# Altium footprint library SOP15P65_500X640X120L62X24T183X205N.PcbLib: 1 footprints
Each footprint in its own frame and in the unit in brackets; x right, y up, seen from the top. Pads: shape width x height; smd on the part's side, far side on the other; paste and mask are expansions set on the pad; w line width, h text height; cw(c..) or ccw(c..) is an arc to the next point about the centre after c.
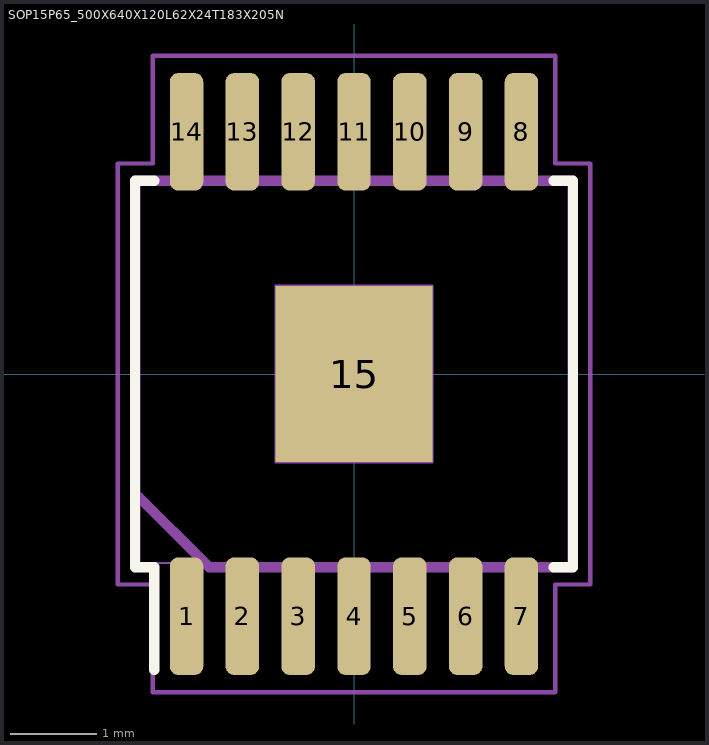
[diagram p0: the footprint, top view; thin cyan lines are the x and y axes]

## SOP15P65_500X640X120L62X24T183X205N [mm] "Small Outline Pkg (SOP with Tab), 0.65 mm pitch; 14 pin, 5.00 mm L X 4.40 mm W X 1.20 mm H body"
height 1.2
pads (15):
  rrect51% 0.39x1.37 smd: 1(-1.95,-2.82) 2(-1.3,-2.82) 3(-0.65,-2.82) 4(0,-2.82) 5(0.65,-2.82) 6(1.3,-2.82) 7(1.95,-2.82) 8(1.95,2.82) 9(1.3,2.82) 10(0.65,2.82) 11(0,2.82) 12(-0.65,2.82) 13(-1.3,2.82) 14(-1.95,2.82)
  rect 1.83x2.055 smd paste-2.055: 15(0,0)
Top Overlay:
  lines w0.12: -2.325,-3.445 -2.325,-2.25 -2.55,-2.25 -2.55,2.25 -2.325,2.25 ; 2.325,-2.25 2.55,-2.25 2.55,2.25 2.325,2.25
Top Paste:
  region: -0.15,0.15 -0.76,0.15 -0.76,0.88 -0.15,0.88
  region: -0.15,-0.88 -0.76,-0.88 -0.76,-0.15 -0.15,-0.15
  region: 0.76,0.15 0.15,0.15 0.15,0.88 0.76,0.88
  region: 0.76,-0.88 0.15,-0.88 0.15,-0.15 0.76,-0.15
Mechanical 3:
  lines w0.12: -2.55,-1.387 -2.55,2.25 2.55,2.25 2.55,-2.25 -1.687,-2.25 -2.55,-1.387
Mechanical 5:
  lines w0.025: -2.5,-2.2 2.5,-2.2 2.5,2.2 -2.5,2.2 -2.5,-2.2 ; -2.073,-3.2 -2.073,-2.575 -1.827,-2.575 -1.827,-3.2 -2.073,-3.2 ; -2.073,2.575 -2.073,3.2 -1.827,3.2 -1.827,2.575 -2.073,2.575 ; -1.422,-3.2 -1.422,-2.575 -1.178,-2.575 -1.178,-3.2 -1.422,-3.2 ; -1.422,2.575 -1.422,3.2 -1.178,3.2 -1.178,2.575 -1.422,2.575 ; -0.915,-1.028 -0.915,1.028 0.915,1.028 0.915,-1.028 -0.915,-1.028 ; -0.773,-3.2 -0.773,-2.575 -0.527,-2.575 -0.527,-3.2 -0.773,-3.2 ; -0.773,2.575 -0.773,3.2 -0.527,3.2 -0.527,2.575 -0.773,2.575 ; -0.122,-3.2 -0.122,-2.575 0.122,-2.575 0.122,-3.2 -0.122,-3.2 ; -0.122,2.575 -0.122,3.2 0.122,3.2 0.122,2.575 -0.122,2.575 ; 0.527,-3.2 0.527,-2.575 0.773,-2.575 0.773,-3.2 0.527,-3.2 ; 0.527,2.575 0.527,3.2 0.773,3.2 0.773,2.575 0.527,2.575 ; 1.178,-3.2 1.178,-2.575 1.422,-2.575 1.422,-3.2 1.178,-3.2 ; 1.178,2.575 1.178,3.2 1.422,3.2 1.422,2.575 1.178,2.575 ; 1.827,-3.2 1.827,-2.575 2.073,-2.575 2.073,-3.2 1.827,-3.2 ; 1.827,2.575 1.827,3.2 2.073,3.2 2.073,2.575 1.827,2.575
Mechanical 7:
  circle w0.05: c0,0 r0.25
  lines w0.05: -0.35,0 0.35,0 ; 0,-0.35 0,0.35 ; -2.75,-2.45 -2.345,-2.45 -2.345,-3.705 2.345,-3.705 2.345,-2.45 2.75,-2.45 2.75,2.45 2.345,2.45 2.345,3.705 -2.345,3.705 -2.345,2.45 -2.75,2.45 -2.75,-2.45
Mechanical 9:
  text "'.Designator'" at -5.461,-0.381 h1
3D body "SOP15P65_500X640X120L62X24T183X205.STEP": height 1.2, standoff 0, extent -2.5,-3.2 2.5,3.2
3D body: height 1, standoff 0, extent -2.75,-3.705 2.75,3.705